# Altium footprint library 0805_Chip_Resistor.PcbLib: 1 footprints
Each footprint in its own frame and in the unit in brackets; x right, y up, seen from the top. Pads: shape width x height; smd on the part's side, far side on the other; paste and mask are expansions set on the pad; w line width, h text height; cw(c..) or ccw(c..) is an arc to the next point about the centre after c.
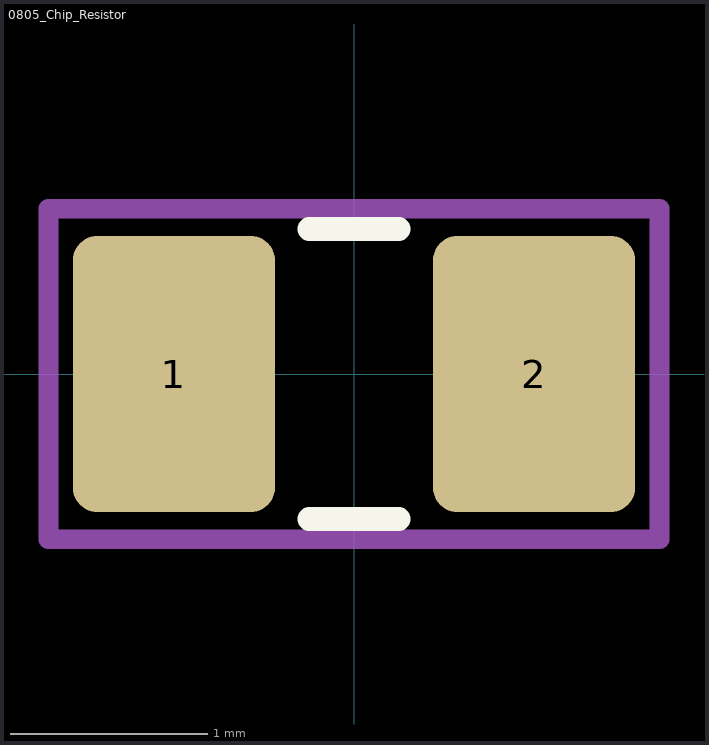
[diagram p0: the footprint, top view; thin cyan lines are the x and y axes]

## 0805_Chip_Resistor [mm]
pads (2):
  rrect24% 1.025x1.4 smd: 1(-0.913,0) 2(0.913,0)
Top Overlay:
  lines w0.12: -0.227,-0.735 0.227,-0.735 ; -0.227,0.735 0.227,0.735
Mechanical 1:
  lines w0.1: -1.548,-0.838 1.548,-0.838 1.548,0.838 -1.548,0.838 -1.548,-0.838
  text ".Designator" at -0.254,0.061 h1
Top Courtyard:
  text "+" at -0.333,-0.5 h1
3D body "resistencia_smd_0805.step": height 0.49, standoff 0, extent -1,-0.6 1,0.6